# EAGLE library part LORA-SX1278 (library SX1278)
SX1278IMLTRT
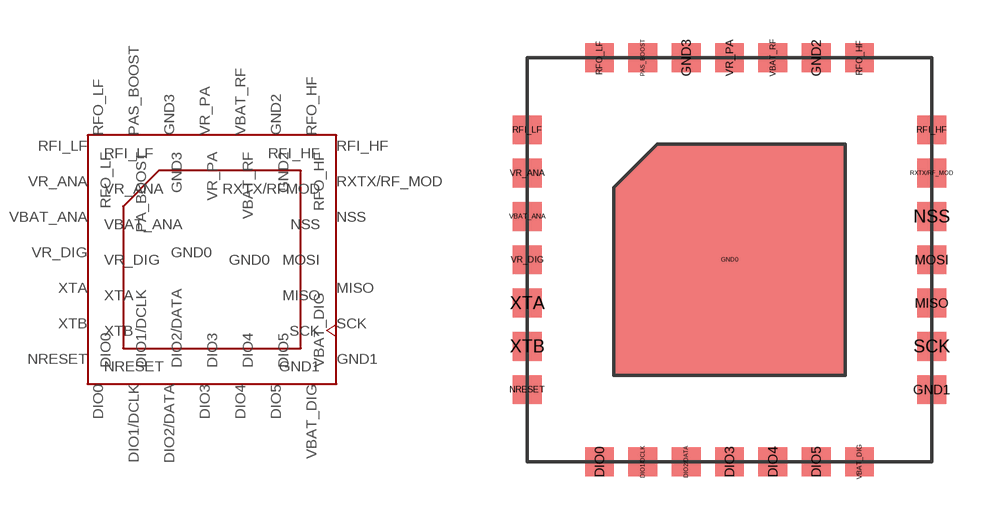
[diagram p0: symbol with the pads of PDIP; footprint PDIP]

Designator prefix -

## LORA-SX1278  [PDIP]
DIO0  DIO0
DIO1/DCLK  DIO1/DCLK
DIO2/DATA  DIO2/DATA
DIO3  DIO3
DIO4  DIO4
DIO5  DIO5
GND0  GND0  pwr
GND1  GND1  pwr
GND2  GND2  pwr
GND3  GND3  pwr
MISO  MISO  out
MOSI  MOSI  in
NRESET  NRESET
NSS  NSS  in
PAS_BOOST  PA_BOOST  out
RFI_HF  RFI_HF  pwr
RFI_LF  RFI_LF  in
RFO_HF  RFO_HF  pwr
RFO_LF  RFO_LF  out
RXTX/RF_MOD  RXTX/RFMOD  out
SCK  SCK  in
VBAT_ANA  VBAT_ANA  pwr
VBAT_DIG  VBAT_DIG  pwr
VBAT_RF  VBAT_RF  pwr
VR_ANA  VR_ANA  pwr
VR_DIG  VR_DIG  pwr
VR_PA  VR_PA  pwr
XTA  XTA
XTB  XTB

## Footprint PDIP (pad centres in mm)
smd 1 x 1: DIO0 2.5,0; DIO1/DCLK 4,0; DIO2/DATA 5.5,0; DIO3 7,0; DIO4 8.5,0; DIO5 10,0; GND1 14,2.5; GND2 10,14; GND3 5.5,14; MISO 14,5.5; MOSI 14,7; NRESET 0,2.5; NSS 14,8.5; PAS_BOOST 4,14; RFI_HF 14,11.5; RFI_LF 0,11.5; RFO_HF 11.5,14; RFO_LF 2.5,14; RXTX/RF_MOD 14,10; SCK 14,4; VBAT_ANA 0,8.5; VBAT_DIG 11.5,0; VBAT_RF 8.5,14; VR_ANA 0,10; VR_DIG 0,7; VR_PA 7,14; XTA 0,5.5; XTB 0,4
smd 0.2 x 0.2: GND0 7,7